# Altium schematic symbol library CONVERSORES.SchLib: 4 symbols
Pins are listed as number, name and electrical type; pins without a type are passive.

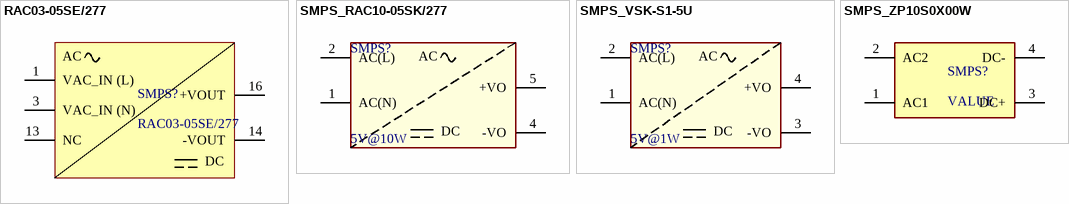
[diagram p0: symbols RAC03-05SE/277 to SMPS_ZP10S0X00W]

## RAC03-05SE/277
designator SMPS?
AC/DC CONVERTER 5V 3W ENCLOSED; Fabricante: Recom Power; Footprint: 16-DIP Module, 5 Leads; MPN: RAC03-05SE/277; Value: RAC03-05SE/277; ComponentLink1Description: loja; ComponentLink1URL: https://www.digikey.com/product-detail/en/recom-power/RAC03-05SE-277/945-2246-ND/5204544; ComponentLink2Description: datasheet; ComponentLink2URL: https://recom-power.com/pdf/Powerline_AC-DC/RAC03-E_277.pdf
footprint RAC03-05SE/277 (Enclosed AC DC Converter 1 Output)
pins: 1 VAC_IN (L) (power), 3 VAC_IN (N) (power), 13 NC, 14 -VOUT (power), 16 +VOUT (power)
text: AC; DC

## SMPS_RAC10-05SK/277
designator SMPS?, comment 5V@10W
CONV AC/DC 10W 85-305VIN 05VOUT; MPN: RAC10-05SK/277; FABRICANTE: RECOM POWER; VALOR: 5V@10W; FOOTPRINT: PTH ENCLOSED 4PIN; ComponentLink1Description: LOJA; ComponentLink1URL: https://www.digikey.com/product-detail/en/recom-power/RAC10-05SK-277/945-3121-5-ND/7807869; ComponentLink2Description: DATASHEET; ComponentLink2URL: https://recom-power.com/pdf/Powerline_AC-DC/RAC10-K_277.pdf
footprint SMPS_RAC10-05SK/277 (Enclosed AC DC Converter 1 Output 5V 2A)
pins: 1 AC(N) (power), 2 AC(L) (power), 4 -VO (power), 5 +VO (power)
text: AC; DC

## SMPS_VSK-S1-5U
designator SMPS?, comment 5V@1W
POWER SUPPLY SWITCHING 5V 1W; MPN: VSK-S1-5U; FABRICANTE: CUI InC.; VALOR: 5V@1W; FOOTPRINT: PTH ENCLOSED 4PIN; ComponentLink1Description: LOJA; ComponentLink1URL: https://www.digikey.com/products/en?keywords=102-2595-ND; ComponentLink2Description: DATASHEET; ComponentLink2URL: https://www.cui.com/product/resource/vsk-s1.pdf
footprint SMPS_VSK-S1-5U - duplicate (Enclosed AC DC Converter 1 OutpuT)
pins: 1 AC(N) (power), 2 AC(L) (power), 3 -VO (power), 4 +VO (power)
text: AC; DC

## SMPS_ZP10S0X00W
designator SMPS?, comment VALUE
10 watt AC/DC Single Output; MPN: ZP10S0X00W; Fabricante: Zettler; Footprint: MOD PTH; VALUE: VALUE
footprint SMPS_ZP10S (10 watt AC/DC Single Output - PTH 4PIN)
pins: 1 AC1, 2 AC2, 3 DC+, 4 DC-